# Altium footprint library RC_FP.PcbLib: 3 footprints
Each footprint in its own frame and in the unit in brackets; x right, y up, seen from the top. Pads: shape width x height; smd on the part's side, far side on the other; paste and mask are expansions set on the pad; w line width, h text height; cw(c..) or ccw(c..) is an arc to the next point about the centre after c.
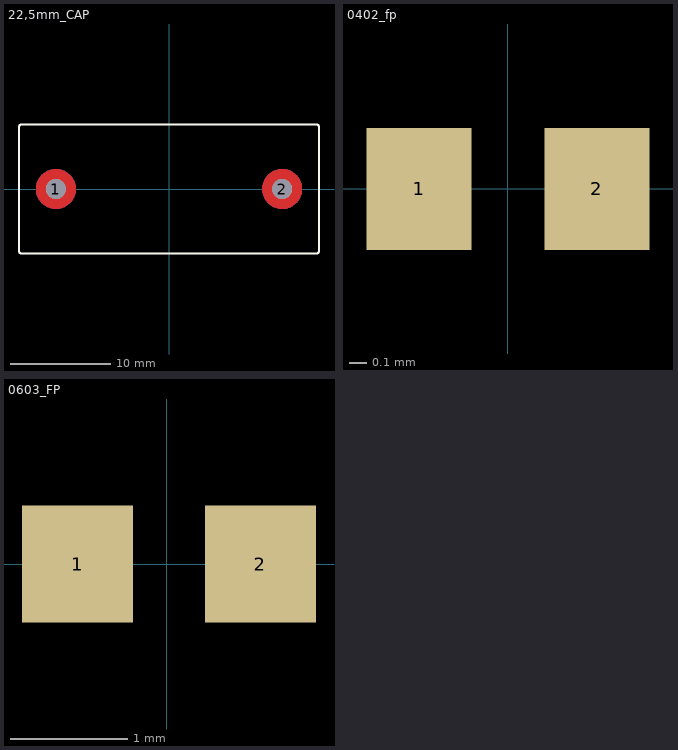
[diagram p0: the footprints below, top view; thin cyan lines are the x and y axes]

## 22,5mm_CAP [mm]
pads (2):
  round 2 hole 2 paste-2539.97 mask-2539.97: 1(-11.25,0) 2(11.25,0)
Top Layer:
  circle w2: c11.25,0 r1
  circle w2: c-11.25,0 r1
Bottom Layer:
  circle w2: c11.25,0 r1
  circle w2: c-11.25,0 r1
Top Overlay:
  lines w0.2: -14.919,-6.165 ccw(c-14.665,-6.165) -14.665,-6.419 14.665,-6.419 ccw(c14.665,-6.165) 14.919,-6.165 14.919,6.165 ccw(c14.665,6.165) 14.665,6.419 -14.665,6.419 ccw(c-14.665,6.165) -14.919,6.165 -14.919,-6.165
Top Paste:
  circle w2: c11.25,0 r1
Bottom Paste:
  circle w2: c11.25,0 r1
Top Solder:
  circle w2: c11.25,0 r1
  circle w2: c-11.25,0 r1
Bottom Solder:
  circle w2: c11.25,0 r1
  circle w2: c-11.25,0 r1

## 0402_fp [mm]
pads (2):
  rect 0.6x0.7 smd mask+0.05: 1(-0.508,0) 2(0.508,0)

## 0603_FP [mm]
pads (2):
  rect 0.95x1 smd mask+0.05: 1(-0.762,0) 2(0.8,0)